# EAGLE library part PHONOJACK_STEREO_SW (library ld-components)
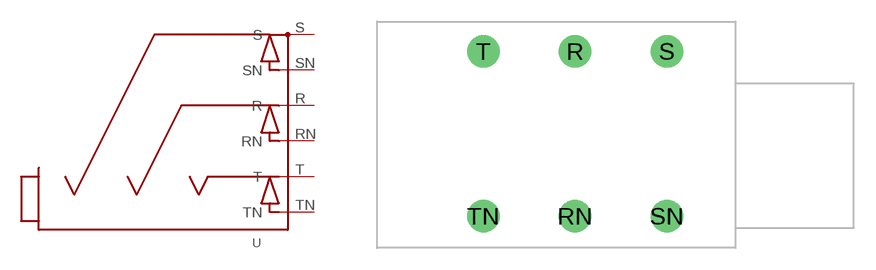
[diagram p14: symbol with the pads of NRJ6HM-1; footprint NRJ6HM-1]

Designator prefix -

## PHONOJACK_STEREO_SW  [NRJ6HM-1]
R  R
RN  RN
S  S
SN  SN
T  T
TN  TN

## Footprint NRJ6HM-1 (pad centres in mm)
drill 1.5: R -11.1,7.23; RN -11.1,-4.2; S -4.75,7.23; SN -4.75,-4.2; T -17.45,7.23; TN -17.45,-4.2